# Altium schematic symbol library DecentralizeLV_LPDRV.SchLib: 8 symbols
Pins are listed as number, name and electrical type; pins without a type are passive.

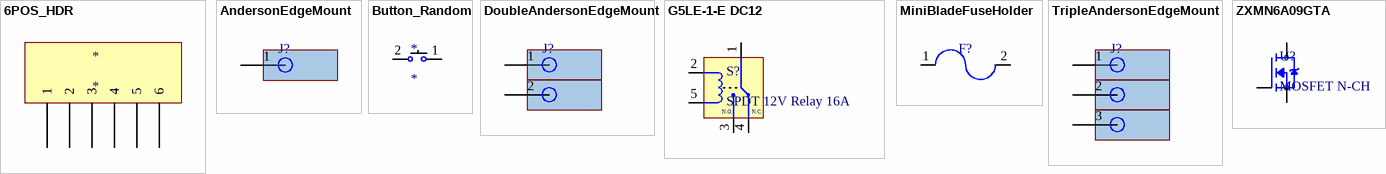
[diagram p0: symbols 6POS_HDR to ZXMN6A09GTA]

## 6POS_HDR
designator *
footprint 6POS_HDR (6 Position 0.1 Pitch Header)
pins: 1, 2, 3, 4, 5, 6

## AndersonEdgeMount
designator J?
Edge Mounted Anderson Connector
footprint AndersonEdgeMount (An edge mounted anderson connector!)
pins: 1

## Button_Random
designator *
pins: 1, 2

## DoubleAndersonEdgeMount
designator J?
Edge Mounted Anderson Connector
footprint DoubleAndersonEdgeMount (An edge mounted anderson connector!)
pins: 1, 2

## G5LE-1-E DC12
designator S?, comment SPDT 12V Relay 16A
footprint G5LE-1-E DC12 (GeneralPurposeRelay16A)
pins: 1, 2, 3, 4, 5
text: N.O.; N.C.

## MiniBladeFuseHolder
designator F?, comment MiniAutomotiveFuseHolder  (value not drawn)
Blade Fuse Holder Automotive Mini
footprint MiniBladeFuseHolder
pins: 1, 2

## TripleAndersonEdgeMount
designator J?
Edge Mounted Anderson Connector
footprint TripleAndersonEdgeMount - duplicate (An edge mounted anderson connector!)
pins: 1, 2, 3

## ZXMN6A09GTA
designator U?, comment MOSFET N-CH
footprint ZXMN6A09GTA (N-Channel MOSFET 60V 5.4A)
pins: 1, 2, 3